# EAGLE library part SY?WK (library MlabPaja)
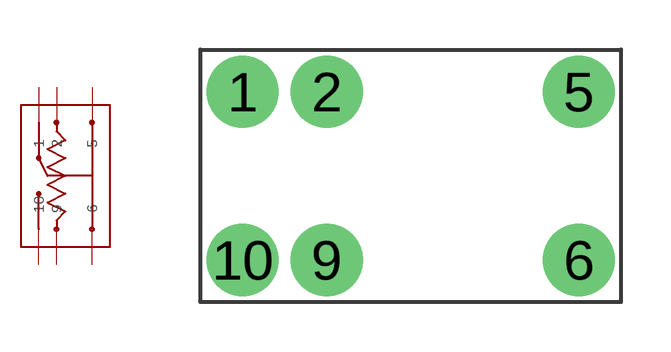
[diagram p7: symbol with the pads of SW5WK; footprint SW5WK]

Designator prefix RELAY_

## SYWK  [SW5WK]
1  1  pas
2  2  pas
5  5  pas
6  6  pas
9  9  pas
10  10  pas

## Footprint SW5WK (pad centres in mm)
drill 1 pad 2.184 round: 1 -5.08,2.54; 2 -2.54,2.54; 5 5.08,2.54; 6 5.08,-2.54; 9 -2.54,-2.54; 10 -5.08,-2.54